# Altium footprint library 单片机.PcbLib: 16 footprints
Each footprint in its own frame and in the unit in brackets; x right, y up, seen from the top. Pads: shape width x height; smd on the part's side, far side on the other; paste and mask are expansions set on the pad; w line width, h text height; cw(c..) or ccw(c..) is an arc to the next point about the centre after c.
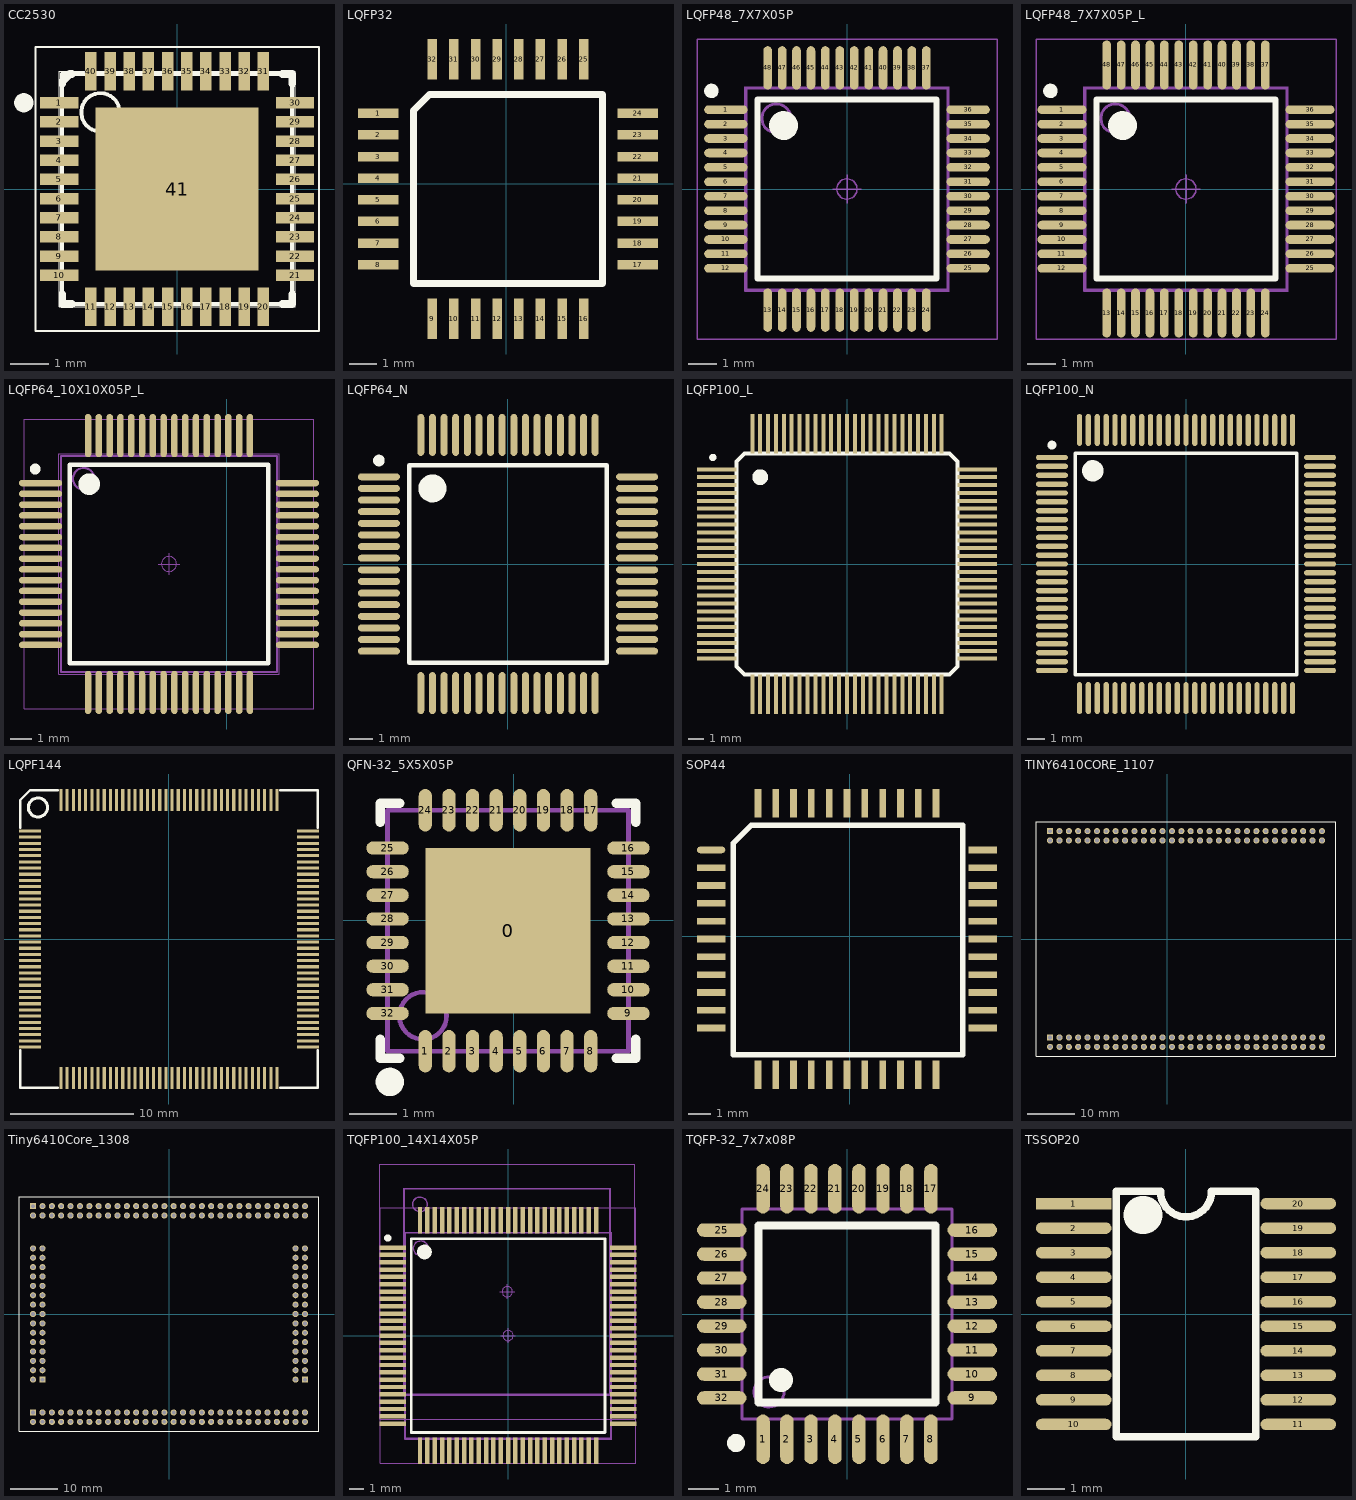
[diagram p0: the footprints below, top view; thin cyan lines are the x and y axes]

## CC2530 [mm]
pads (41):
  rect 1x0.3 smd: 1(-3.075,2.25) 2(-3.075,1.75) 3(-3.075,1.25) 4(-3.075,0.75) 5(-3.075,0.25) 6(-3.075,-0.25) 7(-3.075,-0.75) 8(-3.075,-1.25) 9(-3.075,-1.75) 10(-3.075,-2.25) 21(3.075,-2.25) 22(3.075,-1.75) 23(3.075,-1.25) 24(3.075,-0.75) 25(3.075,-0.25) 26(3.075,0.25) 27(3.075,0.75) 28(3.075,1.25) 29(3.075,1.75) 30(3.075,2.25)
  rect 0.3x1 smd: 11(-2.25,-3.075) 12(-1.75,-3.075) 13(-1.25,-3.075) 14(-0.75,-3.075) 15(-0.25,-3.075) 16(0.25,-3.075) 17(0.75,-3.075) 18(1.25,-3.075) 19(1.75,-3.075) 20(2.25,-3.075) 31(2.25,3.075) 32(1.75,3.075) 33(1.25,3.075) 34(0.75,3.075) 35(0.25,3.075) 36(-0.25,3.075) 37(-0.75,3.075) 38(-1.25,3.075) 39(-1.75,3.075) 40(-2.25,3.075)
  rect 4.25x4.25 smd: 41(0,0)
Top Overlay:
  circle w0.25: c-4,2.25 r0.125
  circle w0.1: c-2,2 r0.5
  circle w0.05: c0,0 r0.35
  lines w0.001: -3.075,-3.075 3.075,-3.075 3.075,3.075 -3.075,3.075 -3.075,-3.075
  lines w0.05: -0.5,0 0.5,0 ; 0,-0.5 0,0.5 ; -3.7,-3.7 3.7,-3.7 3.7,3.7 -3.7,3.7 -3.7,-3.7
  lines w0.1: -3,-3 3,-3 3,3 -3,3 -3,-3
  lines w0.2: -3,-2.75 -3,-3 -2.75,-3 ; -3,2.75 -3,2.8 -2.8,3 -2.75,3 ; 2.75,-3 3,-3 3,-2.75 ; 2.75,3 3,3 3,2.75
Mechanical 15:
  text "1" at 0.45,-0.164 h0.75

## LQFP32 [mm] "STM8S903K3T6"
pads (32):
  rect 1.5x0.35 smd: 1(-4.729,2.602) 2(-4.729,1.802) 3(-4.729,1.002) 4(-4.729,0.202) 5(-4.729,-0.598) 6(-4.729,-1.398) 7(-4.729,-2.198) 8(-4.729,-2.998) 17(4.871,-2.998) 18(4.871,-2.198) 19(4.871,-1.398) 20(4.871,-0.598) 21(4.871,0.202) 22(4.871,1.002) 23(4.871,1.802) 24(4.871,2.602)
  rect 0.35x1.5 smd: 9(-2.729,-4.998) 10(-1.929,-4.998) 11(-1.129,-4.998) 12(-0.329,-4.998) 13(0.471,-4.998) 14(1.271,-4.998) 15(2.071,-4.998) 16(2.871,-4.998) 25(2.871,4.602) 26(2.071,4.602) 27(1.271,4.602) 28(0.471,4.602) 29(-0.329,4.602) 30(-1.129,4.602) 31(-1.929,4.602) 32(-2.729,4.602)
Top Overlay:
  lines w0.254: -3.429,-3.698 3.571,-3.698 3.571,3.302 -2.829,3.302 -3.429,2.702 -3.429,-3.698
  text "." at -2.629,2.302 h1.52

## LQFP48_7X7X05P [mm]
pads (48):
  oval 1.5x0.3 smd: 1(-4.2,2.75) 2(-4.2,2.25) 3(-4.2,1.75) 4(-4.2,1.25) 5(-4.2,0.75) 6(-4.2,0.25) 7(-4.2,-0.25) 8(-4.2,-0.75) 9(-4.2,-1.25) 10(-4.2,-1.75) 11(-4.2,-2.25) 12(-4.2,-2.75) 25(4.2,-2.75) 26(4.2,-2.25) 27(4.2,-1.75) 28(4.2,-1.25) 29(4.2,-0.75) 30(4.2,-0.25) 31(4.2,0.25) 32(4.2,0.75) 33(4.2,1.25) 34(4.2,1.75) 35(4.2,2.25) 36(4.2,2.75)
  oval 0.3x1.5 smd: 13(-2.75,-4.2) 14(-2.25,-4.2) 15(-1.75,-4.2) 16(-1.25,-4.2) 17(-0.75,-4.2) 18(-0.25,-4.2) 19(0.25,-4.2) 20(0.75,-4.2) 21(1.25,-4.2) 22(1.75,-4.2) 23(2.25,-4.2) 24(2.75,-4.2) 37(2.75,4.2) 38(2.25,4.2) 39(1.75,4.2) 40(1.25,4.2) 41(0.75,4.2) 42(0.25,4.2) 43(-0.25,4.2) 44(-0.75,4.2) 45(-1.25,4.2) 46(-1.75,4.2) 47(-2.25,4.2) 48(-2.75,4.2)
Top Overlay:
  circle w0.5: c-2.2,2.2 r0.25
  circle w0.25: c-4.7,3.4 r0.125
  lines w0.2: -3.1,-3.1 -3.1,3.1 3.1,3.1 3.1,-3.1 -3.1,-3.1
Mechanical 15:
  circle w0.1: c-2.45,2.45 r0.5
  lines w0.1: -3.5,-3.5 -3.5,3.5 3.5,3.5 3.5,-3.5 -3.5,-3.5
Mechanical 16:
  circle w0.05: c0,0 r0.35
  lines w0.001: -3.55,-3.55 -3.55,3.55 3.55,3.55 3.55,-3.55 -3.55,-3.55
  lines w0.05: -0.5,0 0.5,0 ; 0,-0.5 0,0.5 ; -5.2,-5.2 -5.2,5.2 5.2,5.2 5.2,-5.2 -5.2,-5.2

## LQFP48_7X7X05P_L [mm] "焊盘加长"
pads (48):
  oval 1.7x0.3 smd: 1(-4.3,2.75) 2(-4.3,2.25) 3(-4.3,1.75) 4(-4.3,1.25) 5(-4.3,0.75) 6(-4.3,0.25) 7(-4.3,-0.25) 8(-4.3,-0.75) 9(-4.3,-1.25) 10(-4.3,-1.75) 11(-4.3,-2.25) 12(-4.3,-2.75) 25(4.3,-2.75) 26(4.3,-2.25) 27(4.3,-1.75) 28(4.3,-1.25) 29(4.3,-0.75) 30(4.3,-0.25) 31(4.3,0.25) 32(4.3,0.75) 33(4.3,1.25) 34(4.3,1.75) 35(4.3,2.25) 36(4.3,2.75)
  oval 0.3x1.7 smd: 13(-2.75,-4.3) 14(-2.25,-4.3) 15(-1.75,-4.3) 16(-1.25,-4.3) 17(-0.75,-4.3) 18(-0.25,-4.3) 19(0.25,-4.3) 20(0.75,-4.3) 21(1.25,-4.3) 22(1.75,-4.3) 23(2.25,-4.3) 24(2.75,-4.3) 37(2.75,4.3) 38(2.25,4.3) 39(1.75,4.3) 40(1.25,4.3) 41(0.75,4.3) 42(0.25,4.3) 43(-0.25,4.3) 44(-0.75,4.3) 45(-1.25,4.3) 46(-1.75,4.3) 47(-2.25,4.3) 48(-2.75,4.3)
Top Overlay:
  circle w0.5: c-2.2,2.2 r0.25
  circle w0.25: c-4.7,3.4 r0.125
  lines w0.2: -3.1,-3.1 -3.1,3.1 3.1,3.1 3.1,-3.1 -3.1,-3.1
Mechanical 15:
  circle w0.1: c-2.45,2.45 r0.5
  lines w0.1: -3.5,-3.5 -3.5,3.5 3.5,3.5 3.5,-3.5 -3.5,-3.5
Mechanical 16:
  circle w0.05: c0,0 r0.35
  lines w0.001: -3.55,-3.55 -3.55,3.55 3.55,3.55 3.55,-3.55 -3.55,-3.55
  lines w0.05: -0.5,0 0.5,0 ; 0,-0.5 0,0.5 ; -5.2,-5.2 -5.2,5.2 5.2,5.2 5.2,-5.2 -5.2,-5.2

## LQFP64_10X10X05P_L [mm] "焊盘加长"
pads (64):
  oval 2x0.3 smd: 1(-8.617,-15.173) 2(-8.617,-15.673) 3(-8.617,-16.173) 4(-8.617,-16.673) 5(-8.617,-17.173) 6(-8.617,-17.673) 7(-8.617,-18.173) 8(-8.617,-18.673) 9(-8.617,-19.173) 10(-8.617,-19.673) 11(-8.617,-20.173) 12(-8.617,-20.673) 13(-8.617,-21.173) 14(-8.617,-21.673) 15(-8.617,-22.173) 16(-8.617,-22.673) 33(3.283,-22.673) 34(3.283,-22.173) 35(3.283,-21.673) 36(3.283,-21.173) 37(3.283,-20.673) 38(3.283,-20.173) 39(3.283,-19.673) 40(3.283,-19.173) 41(3.283,-18.673) 42(3.283,-18.173) 43(3.283,-17.673) 44(3.283,-17.173) 45(3.283,-16.673) 46(3.283,-16.173) 47(3.283,-15.673) 48(3.283,-15.173)
  oval 0.3x2 smd: 17(-6.417,-24.873) 18(-5.917,-24.873) 19(-5.417,-24.873) 20(-4.917,-24.873) 21(-4.417,-24.873) 22(-3.917,-24.873) 23(-3.417,-24.873) 24(-2.917,-24.873) 25(-2.417,-24.873) 26(-1.917,-24.873) 27(-1.417,-24.873) 28(-0.917,-24.873) 29(-0.417,-24.873) 30(0.083,-24.873) 31(0.583,-24.873) 32(1.083,-24.873) 49(1.083,-12.973) 50(0.583,-12.973) 51(0.083,-12.973) 52(-0.417,-12.973) 53(-0.917,-12.973) 54(-1.417,-12.973) 55(-1.917,-12.973) 56(-2.417,-12.973) 57(-2.917,-12.973) 58(-3.417,-12.973) 59(-3.917,-12.973) 60(-4.417,-12.973) 61(-4.917,-12.973) 62(-5.417,-12.973) 63(-5.917,-12.973) 64(-6.417,-12.973)
Top Overlay:
  circle w0.5: c-6.367,-15.223 r0.25
  circle w0.25: c-8.867,-14.523 r0.125
  lines w0.2: -7.267,-23.523 -7.267,-14.323 1.933,-14.323 1.933,-23.523 -7.267,-23.523
Mechanical 15:
  circle w0.1: c-6.617,-14.973 r0.5
  lines w0.1: -7.667,-23.923 -7.667,-13.923 2.333,-13.923 2.333,-23.923 -7.667,-23.923
Mechanical 16:
  circle w0.05: c-2.667,-18.923 r0.35
  lines w0.001: -7.767,-24.023 -7.767,-13.823 2.433,-13.823 2.433,-24.023 -7.767,-24.023
  lines w0.05: -3.167,-18.923 -2.167,-18.923 ; -2.667,-19.423 -2.667,-18.423 ; -9.367,-25.623 -9.367,-12.223 4.033,-12.223 4.033,-25.623 -9.367,-25.623

## LQFP64_N [mm]
pads (64):
  oval 1.8x0.3 smd: 1(-5.55,3.75) 2(-5.55,3.25) 3(-5.55,2.75) 4(-5.55,2.25) 5(-5.55,1.75) 6(-5.55,1.25) 7(-5.55,0.75) 8(-5.55,0.25) 9(-5.55,-0.25) 10(-5.55,-0.75) 11(-5.55,-1.25) 12(-5.55,-1.75) 13(-5.55,-2.25) 14(-5.55,-2.75) 15(-5.55,-3.25) 16(-5.55,-3.75) 33(5.55,-3.75) 34(5.55,-3.25) 35(5.55,-2.75) 36(5.55,-2.25) 37(5.55,-1.75) 38(5.55,-1.25) 39(5.55,-0.75) 40(5.55,-0.25) 41(5.55,0.25) 42(5.55,0.75) 43(5.55,1.25) 44(5.55,1.75) 45(5.55,2.25) 46(5.55,2.75) 47(5.55,3.25) 48(5.55,3.75)
  oval 0.3x1.8 smd: 17(-3.75,-5.55) 18(-3.25,-5.55) 19(-2.75,-5.55) 20(-2.25,-5.55) 21(-1.75,-5.55) 22(-1.25,-5.55) 23(-0.75,-5.55) 24(-0.25,-5.55) 25(0.25,-5.55) 26(0.75,-5.55) 27(1.25,-5.55) 28(1.75,-5.55) 29(2.25,-5.55) 30(2.75,-5.55) 31(3.25,-5.55) 32(3.75,-5.55) 49(3.75,5.55) 50(3.25,5.55) 51(2.75,5.55) 52(2.25,5.55) 53(1.75,5.55) 54(1.25,5.55) 55(0.75,5.55) 56(0.25,5.55) 57(-0.25,5.55) 58(-0.75,5.55) 59(-1.25,5.55) 60(-1.75,5.55) 61(-2.25,5.55) 62(-2.75,5.55) 63(-3.25,5.55) 64(-3.75,5.55)
Top Overlay:
  circle w0.25: c-5.55,4.45 r0.125
  circle w0.6: c-3.25,3.25 r0.3
  lines w0.2: -4.25,-4.25 -4.25,4.25 4.25,4.25 4.25,-4.25 -4.25,-4.25

## LQFP100_L [mm]
pads (100):
  rect 2.5x0.254 smd: 1(-8.25,6) 2(-8.25,5.5) 3(-8.25,5) 4(-8.25,4.5) 5(-8.25,4) 6(-8.25,3.5) 7(-8.25,3) 8(-8.25,2.5) 9(-8.25,2) 10(-8.25,1.5) 11(-8.25,1) 12(-8.25,0.5) 13(-8.25,0) 14(-8.25,-0.5) 15(-8.25,-1) 16(-8.25,-1.5) 17(-8.25,-2) 18(-8.25,-2.5) 19(-8.25,-3) 20(-8.25,-3.5) 21(-8.25,-4) 22(-8.25,-4.5) 23(-8.25,-5) 24(-8.25,-5.5) 25(-8.25,-6) 51(8.25,-6) 52(8.25,-5.5) 53(8.25,-5) 54(8.25,-4.5) 55(8.25,-4) 56(8.25,-3.5) 57(8.25,-3) 58(8.25,-2.5) 59(8.25,-2) 60(8.25,-1.5) 61(8.25,-1) 62(8.25,-0.5) 63(8.25,0) 64(8.25,0.5) 65(8.25,1) 66(8.25,1.5) 67(8.25,2) 68(8.25,2.5) 69(8.25,3) 70(8.25,3.5) 71(8.25,4) 72(8.25,4.5) 73(8.25,5) 74(8.25,5.5) 75(8.25,6)
  rect 0.254x2.5 smd: 26(-6,-8.25) 27(-5.5,-8.25) 28(-5,-8.25) 29(-4.5,-8.25) 30(-4,-8.25) 31(-3.5,-8.25) 32(-3,-8.25) 33(-2.5,-8.25) 34(-2,-8.25) 35(-1.5,-8.25) 36(-1,-8.25) 37(-0.5,-8.25) 38(0,-8.25) 39(0.5,-8.25) 40(1,-8.25) 41(1.5,-8.25) 42(2,-8.25) 43(2.5,-8.25) 44(3,-8.25) 45(3.5,-8.25) 46(4,-8.25) 47(4.5,-8.25) 48(5,-8.25) 49(5.5,-8.25) 50(6,-8.25) 76(6,8.25) 77(5.5,8.25) 78(5,8.25) 79(4.5,8.25) 80(4,8.25) 81(3.5,8.25) 82(3,8.25) 83(2.5,8.25) 84(2,8.25) 85(1.5,8.25) 86(1,8.25) 87(0.5,8.25) 88(0,8.25) 89(-0.5,8.25) 90(-1,8.25) 91(-1.5,8.25) 92(-2,8.25) 93(-2.5,8.25) 94(-3,8.25) 95(-3.5,8.25) 96(-4,8.25) 97(-4.5,8.25) 98(-5,8.25) 99(-5.5,8.25) 100(-6,8.25)
Top Overlay:
  circle w0.254: c-8.5,6.75 r0.1
  circle w0.5: c-5.5,5.5 r0.25
  lines w0.254: -7,-6.5 -7,6.5 ; -7,-6.5 -6.5,-7 ; -7,-6.5 -6.5,-7 ; -7,6.5 -6.5,7 ; -7,6.5 -6.5,7 ; -6.5,-7 6.5,-7 ; -6.5,7 6.5,7 ; 6.5,-7 7,-6.5 ; 6.5,-7 7,-6.5 ; 6.5,7 7,6.5 ; 6.5,7 7,6.5 ; 7,-6.5 7,6.5
3D body: height 1.41, standoff -0.05, extent -8,-8 8,8

## LQFP100_N [mm]
pads (100):
  oval 1.8x0.3 smd: 1(-7.55,6) 2(-7.55,5.5) 3(-7.55,5) 4(-7.55,4.5) 5(-7.55,4) 6(-7.55,3.5) 7(-7.55,3) 8(-7.55,2.5) 9(-7.55,2) 10(-7.55,1.5) 11(-7.55,1) 12(-7.55,0.5) 13(-7.55,0) 14(-7.55,-0.5) 15(-7.55,-1) 16(-7.55,-1.5) 17(-7.55,-2) 18(-7.55,-2.5) 19(-7.55,-3) 20(-7.55,-3.5) 21(-7.55,-4) 22(-7.55,-4.5) 23(-7.55,-5) 24(-7.55,-5.5) 25(-7.55,-6) 51(7.55,-6) 52(7.55,-5.5) 53(7.55,-5) 54(7.55,-4.5) 55(7.55,-4) 56(7.55,-3.5) 57(7.55,-3) 58(7.55,-2.5) 59(7.55,-2) 60(7.55,-1.5) 61(7.55,-1) 62(7.55,-0.5) 63(7.55,0) 64(7.55,0.5) 65(7.55,1) 66(7.55,1.5) 67(7.55,2) 68(7.55,2.5) 69(7.55,3) 70(7.55,3.5) 71(7.55,4) 72(7.55,4.5) 73(7.55,5) 74(7.55,5.5) 75(7.55,6)
  oval 0.3x1.8 smd: 26(-6,-7.55) 27(-5.5,-7.55) 28(-5,-7.55) 29(-4.5,-7.55) 30(-4,-7.55) 31(-3.5,-7.55) 32(-3,-7.55) 33(-2.5,-7.55) 34(-2,-7.55) 35(-1.5,-7.55) 36(-1,-7.55) 37(-0.5,-7.55) 38(0,-7.55) 39(0.5,-7.55) 40(1,-7.55) 41(1.5,-7.55) 42(2,-7.55) 43(2.5,-7.55) 44(3,-7.55) 45(3.5,-7.55) 46(4,-7.55) 47(4.5,-7.55) 48(5,-7.55) 49(5.5,-7.55) 50(6,-7.55) 76(6,7.55) 77(5.5,7.55) 78(5,7.55) 79(4.5,7.55) 80(4,7.55) 81(3.5,7.55) 82(3,7.55) 83(2.5,7.55) 84(2,7.55) 85(1.5,7.55) 86(1,7.55) 87(0.5,7.55) 88(0,7.55) 89(-0.5,7.55) 90(-1,7.55) 91(-1.5,7.55) 92(-2,7.55) 93(-2.5,7.55) 94(-3,7.55) 95(-3.5,7.55) 96(-4,7.55) 97(-4.5,7.55) 98(-5,7.55) 99(-5.5,7.55) 100(-6,7.55)
Top Overlay:
  circle w0.25: c-7.55,6.7 r0.125
  circle w0.6: c-5.25,5.25 r0.3
  lines w0.2: -6.25,-6.25 -6.25,6.25 6.25,6.25 6.25,-6.25 -6.25,-6.25
3D body: height 1.41, standoff -0.05, extent -8,-8 8,8

## LQPF144 [mm]
pads (144):
  rect 1.8x0.254 smd: 1(-11.25,8.75) 2(-11.25,8.25) 3(-11.25,7.75) 4(-11.25,7.25) 5(-11.25,6.75) 6(-11.25,6.25) 7(-11.25,5.75) 8(-11.25,5.25) 9(-11.25,4.75) 10(-11.25,4.25) 11(-11.25,3.75) 12(-11.25,3.25) 13(-11.25,2.75) 14(-11.25,2.25) 15(-11.25,1.75) 16(-11.25,1.25) 17(-11.25,0.75) 18(-11.25,0.25) 19(-11.25,-0.25) 20(-11.25,-0.75) 21(-11.25,-1.25) 22(-11.25,-1.75) 23(-11.25,-2.25) 24(-11.25,-2.75) 25(-11.25,-3.25) 26(-11.25,-3.75) 27(-11.25,-4.25) 28(-11.25,-4.75) 29(-11.25,-5.25) 30(-11.25,-5.75) 31(-11.25,-6.25) 32(-11.25,-6.75) 33(-11.25,-7.25) 34(-11.25,-7.75) 35(-11.25,-8.25) 36(-11.25,-8.75) 73(11.25,-8.75) 74(11.25,-8.25) 75(11.25,-7.75) 76(11.25,-7.25) 77(11.25,-6.75) 78(11.25,-6.25) 79(11.25,-5.75) 80(11.25,-5.25) 81(11.25,-4.75) 82(11.25,-4.25) 83(11.25,-3.75) 84(11.25,-3.25) 85(11.25,-2.75) 86(11.25,-2.25) 87(11.25,-1.75) 88(11.25,-1.25) 89(11.25,-0.75) 90(11.25,-0.25) 91(11.25,0.25) 92(11.25,0.75) 93(11.25,1.25) 94(11.25,1.75) 95(11.25,2.25) 96(11.25,2.75) 97(11.25,3.25) 98(11.25,3.75) 99(11.25,4.25) 100(11.25,4.75) 101(11.25,5.25) 102(11.25,5.75) 103(11.25,6.25) 104(11.25,6.75) 105(11.25,7.25) 106(11.25,7.75) 107(11.25,8.25) 108(11.25,8.75)
  rect 0.254x1.8 smd: 37(-8.75,-11.25) 38(-8.25,-11.25) 39(-7.75,-11.25) 40(-7.25,-11.25) 41(-6.75,-11.25) 42(-6.25,-11.25) 43(-5.75,-11.25) 44(-5.25,-11.25) 45(-4.75,-11.25) 46(-4.25,-11.25) 47(-3.75,-11.25) 48(-3.25,-11.25) 49(-2.75,-11.25) 50(-2.25,-11.25) 51(-1.75,-11.25) 52(-1.25,-11.25) 53(-0.75,-11.25) 54(-0.25,-11.25) 55(0.25,-11.25) 56(0.75,-11.25) 57(1.25,-11.25) 58(1.75,-11.25) 59(2.25,-11.25) 60(2.75,-11.25) 61(3.25,-11.25) 62(3.75,-11.25) 63(4.25,-11.25) 64(4.75,-11.25) 65(5.25,-11.25) 66(5.75,-11.25) 67(6.25,-11.25) 68(6.75,-11.25) 69(7.25,-11.25) 70(7.75,-11.25) 71(8.25,-11.25) 72(8.75,-11.25) 109(8.75,11.25) 110(8.25,11.25) 111(7.75,11.25) 112(7.25,11.25) 113(6.75,11.25) 114(6.25,11.25) 115(5.75,11.25) 116(5.25,11.25) 117(4.75,11.25) 118(4.25,11.25) 119(3.75,11.25) 120(3.25,11.25) 121(2.75,11.25) 122(2.25,11.25) 123(1.75,11.25) 124(1.25,11.25) 125(0.75,11.25) 126(0.25,11.25) 127(-0.25,11.25) 128(-0.75,11.25) 129(-1.25,11.25) 130(-1.75,11.25) 131(-2.25,11.25) 132(-2.75,11.25) 133(-3.25,11.25) 134(-3.75,11.25) 135(-4.25,11.25) 136(-4.75,11.25) 137(-5.25,11.25) 138(-5.75,11.25) 139(-6.25,11.25) 140(-6.75,11.25) 141(-7.25,11.25) 142(-7.75,11.25) 143(-8.25,11.25) 144(-8.75,11.25)
Top Overlay:
  circle w0.254: c-10.616,10.654 r0.773
  lines w0.2: -12.05,-9 -12.05,-12.05 -9,-12.05 ; -12.05,9 -12.05,11.25 -11.25,12.05 -9,12.05 ; 9,-12.05 12.05,-12.05 12.05,-9 ; 9,12.05 12.05,12.05 12.05,9

## QFN-32_5X5X05P [mm]
pads (33):
  rect 3.5x3.5 smd paste-1.75 mask+0.051: 0(-0.125,-0.225)
  oval 0.28x0.9 smd mask+0.051: 1(-1.875,-2.775) 2(-1.375,-2.775) 3(-0.875,-2.775) 4(-0.375,-2.775) 5(0.125,-2.775) 6(0.625,-2.775) 7(1.125,-2.775) 8(1.625,-2.775) 17(1.625,2.325) 18(1.125,2.325) 19(0.625,2.325) 20(0.125,2.325) 21(-0.375,2.325) 22(-0.875,2.325) 23(-1.375,2.325) 24(-1.875,2.325)
  oval 0.9x0.28 smd mask+0.051: 9(2.425,-1.975) 10(2.425,-1.475) 11(2.425,-0.975) 12(2.425,-0.475) 13(2.425,0.025) 14(2.425,0.525) 15(2.425,1.025) 16(2.425,1.525) 25(-2.675,1.525) 26(-2.675,1.025) 27(-2.675,0.525) 28(-2.675,0.025) 29(-2.675,-0.475) 30(-2.675,-0.975) 31(-2.675,-1.475) 32(-2.675,-1.975)
Top Overlay:
  circle w0.3: c-2.625,-3.425 r0.15
  lines w0.2: -2.825,-2.52 -2.825,-2.925 -2.42,-2.925 ; -2.825,2.07 -2.825,2.475 -2.42,2.475 ; 2.17,-2.925 2.575,-2.925 2.575,-2.52 ; 2.17,2.475 2.575,2.475 2.575,2.07
Top Paste:
  rectangle: 0.425,0.325 0.925,0.825
  rectangle: -0.375,0.325 0.125,0.825
  rectangle: -1.175,0.325 -0.675,0.825
  rectangle: -1.175,-0.475 -0.675,0.025
  rectangle: -1.175,-1.275 -0.675,-0.775
  rectangle: 0.425,-1.275 0.925,-0.775
  rectangle: -0.375,-1.275 0.125,-0.775
  rectangle: 0.425,-0.475 0.925,0.025
  rectangle: -0.375,-0.475 0.125,0.025
Mechanical 13:
  circle w0.1: c-1.925,-2.025 r0.5
  lines w0.1: -2.675,-2.775 -2.675,2.325 2.425,2.325 2.425,-2.775 -2.675,-2.775

## SOP44 [mm] "STC12C5A60S2"
pads (44):
  oval 1.27x0.3 smd: 1(-6.227,3.873)
  rect 1.27x0.3 smd: 2(-6.227,3.073) 3(-6.227,2.273) 4(-6.227,1.473) 5(-6.227,0.673) 6(-6.227,-0.127) 7(-6.227,-0.927) 8(-6.227,-1.727) 9(-6.227,-2.527) 10(-6.227,-3.327) 11(-6.227,-4.127) 23(5.973,-4.127) 24(5.973,-3.327) 25(5.973,-2.527) 26(5.973,-1.727) 27(5.973,-0.927) 28(5.973,-0.127) 29(5.973,0.673) 30(5.973,1.473) 31(5.973,2.273) 32(5.973,3.073) 33(5.973,3.873)
  rect 0.3x1.27 smd: 12(-4.127,-6.227) 13(-3.327,-6.227) 14(-2.527,-6.227) 15(-1.727,-6.227) 16(-0.927,-6.227) 17(-0.127,-6.227) 18(0.673,-6.227) 19(1.473,-6.227) 20(2.273,-6.227) 21(3.073,-6.227) 22(3.873,-6.227) 34(3.873,5.973) 35(3.073,5.973) 36(2.273,5.973) 37(1.473,5.973) 38(0.673,5.973) 39(-0.127,5.973) 40(-0.927,5.973) 41(-1.727,5.973) 42(-2.527,5.973) 43(-3.327,5.973) 44(-4.127,5.973)
Top Overlay:
  lines w0.245: -5.227,-5.327 -5.227,4.173 -4.427,4.973 5.073,4.973 5.073,-5.327 -5.227,-5.327
  text "." at -4.227,3.973 h1.52

## TINY6410CORE_1107 [mm]
pads (120):
  rect 1.3x1.3 hole 0.8: 1(-25,23) 61(-25,-21)
  round 1.3 hole 0.8: 2(-25,21) 3(-23,23) 4(-23,21) 5(-21,23) 6(-21,21) 7(-19,23) 8(-19,21) 9(-17,23) 10(-17,21) 11(-15,23) 12(-15,21) 13(-13,23) 14(-13,21) 15(-11,23) 16(-11,21) 17(-9,23) 18(-9,21) 19(-7,23) 20(-7,21) 21(-5,23) 22(-5,21) 23(-3,23) 24(-3,21) 25(-1,23) 26(-1,21) 27(1,23) 28(1,21) 29(3,23) 30(3,21) 31(5,23) 32(5,21) 33(7,23) 34(7,21) 35(9,23) 36(9,21) 37(11,23) 38(11,21) 39(13,23) 40(13,21) 41(15,23) 42(15,21) 43(17,23) 44(17,21) 45(19,23) 46(19,21) 47(21,23) 48(21,21) 49(23,23) 50(23,21) 51(25,23) 52(25,21) 53(27,23) 54(27,21) 55(29,23) 56(29,21) 57(31,23) 58(31,21) 59(33,23) 60(33,21) 62(-25,-23) 63(-23,-21) 64(-23,-23) 65(-21,-21) 66(-21,-23) 67(-19,-21) 68(-19,-23) 69(-17,-21) 70(-17,-23) 71(-15,-21) 72(-15,-23) 73(-13,-21) 74(-13,-23) 75(-11,-21) 76(-11,-23) 77(-9,-21) 78(-9,-23) 79(-7,-21) 80(-7,-23) 81(-5,-21) 82(-5,-23) 83(-3,-21) 84(-3,-23) 85(-1,-21) 86(-1,-23) 87(1,-21) 88(1,-23) 89(3,-21) 90(3,-23) 91(5,-21) 92(5,-23) 93(7,-21) 94(7,-23) 95(9,-21) 96(9,-23) 97(11,-21) 98(11,-23) 99(13,-21) 100(13,-23) 101(15,-21) 102(15,-23) 103(17,-21) 104(17,-23) 105(19,-21) 106(19,-23) 107(21,-21) 108(21,-23) 109(23,-21) 110(23,-23) 111(25,-21) 112(25,-23) 113(27,-21) 114(27,-23) 115(29,-21) 116(29,-23) 117(31,-21) 118(31,-23) 119(33,-21) 120(33,-23)
Top Overlay:
  lines w0.254: -28,-25 36,-25 36,25 -28,25 -28,-25

## Tiny6410Core_1308 [mm]
pads (180):
  rect 1.3x1.3 hole 0.8: 1(-29,23) 61(-29,-21) 121(-27,-14) 151(29,-14)
  round 1.3 hole 0.8: 2(-29,21) 3(-27,23) 4(-27,21) 5(-25,23) 6(-25,21) 7(-23,23) 8(-23,21) 9(-21,23) 10(-21,21) 11(-19,23) 12(-19,21) 13(-17,23) 14(-17,21) 15(-15,23) 16(-15,21) 17(-13,23) 18(-13,21) 19(-11,23) 20(-11,21) 21(-9,23) 22(-9,21) 23(-7,23) 24(-7,21) 25(-5,23) 26(-5,21) 27(-3,23) 28(-3,21) 29(-1,23) 30(-1,21) 31(1,23) 32(1,21) 33(3,23) 34(3,21) 35(5,23) 36(5,21) 37(7,23) 38(7,21) 39(9,23) 40(9,21) 41(11,23) 42(11,21) 43(13,23) 44(13,21) 45(15,23) 46(15,21) 47(17,23) 48(17,21) 49(19,23) 50(19,21) 51(21,23) 52(21,21) 53(23,23) 54(23,21) 55(25,23) 56(25,21) 57(27,23) 58(27,21) 59(29,23) 60(29,21) 62(-29,-23) 63(-27,-21) 64(-27,-23) 65(-25,-21) 66(-25,-23) 67(-23,-21) 68(-23,-23) 69(-21,-21) 70(-21,-23) 71(-19,-21) 72(-19,-23) 73(-17,-21) 74(-17,-23) 75(-15,-21) 76(-15,-23) 77(-13,-21) 78(-13,-23) 79(-11,-21) 80(-11,-23) 81(-9,-21) 82(-9,-23) 83(-7,-21) 84(-7,-23) 85(-5,-21) 86(-5,-23) 87(-3,-21) 88(-3,-23) 89(-1,-21) 90(-1,-23) 91(1,-21) 92(1,-23) 93(3,-21) 94(3,-23) 95(5,-21) 96(5,-23) 97(7,-21) 98(7,-23) 99(9,-21) 100(9,-23) 101(11,-21) 102(11,-23) 103(13,-21) 104(13,-23) 105(15,-21) 106(15,-23) 107(17,-21) 108(17,-23) 109(19,-21) 110(19,-23) 111(21,-21) 112(21,-23) 113(23,-21) 114(23,-23) 115(25,-21) 116(25,-23) 117(27,-21) 118(27,-23) 119(29,-21) 120(29,-23) 122(-29,-14) 123(-27,-12) 124(-29,-12) 125(-27,-10) 126(-29,-10) 127(-27,-8) 128(-29,-8) 129(-27,-6) 130(-29,-6) 131(-27,-4) 132(-29,-4) 133(-27,-2) 134(-29,-2) 135(-27,0) 136(-29,0) 137(-27,2) 138(-29,2) 139(-27,4) 140(-29,4) 141(-27,6) 142(-29,6) 143(-27,8) 144(-29,8) 145(-27,10) 146(-29,10) 147(-27,12) 148(-29,12) 149(-27,14) 150(-29,14) 152(27,-14) 153(29,-12) 154(27,-12) 155(29,-10) 156(27,-10) 157(29,-8) 158(27,-8) 159(29,-6) 160(27,-6) 161(29,-4) 162(27,-4) 163(29,-2) 164(27,-2) 165(29,0) 166(27,0) 167(29,2) 168(27,2) 169(29,4) 170(27,4) 171(29,6) 172(27,6) 173(29,8) 174(27,8) 175(29,10) 176(27,10) 177(29,12) 178(27,12) 179(29,14) 180(27,14)
Top Overlay:
  lines w0.254: -32,-25 -32,25 32,25 32,-25 -32,-25

## TQFP100_14X14X05P [mm]
pads (100):
  rect 1.8x0.3 smd: 1(-7.85,6) 2(-7.85,5.5) 3(-7.85,5) 4(-7.85,4.5) 5(-7.85,4) 6(-7.85,3.5) 7(-7.85,3) 8(-7.85,2.5) 9(-7.85,2) 10(-7.85,1.5) 11(-7.85,1) 12(-7.85,0.5) 13(-7.85,0) 14(-7.85,-0.5) 15(-7.85,-1) 16(-7.85,-1.5) 17(-7.85,-2) 18(-7.85,-2.5) 19(-7.85,-3) 20(-7.85,-3.5) 21(-7.85,-4) 22(-7.85,-4.5) 23(-7.85,-5) 24(-7.85,-5.5) 25(-7.85,-6) 51(7.85,-6) 52(7.85,-5.5) 53(7.85,-5) 54(7.85,-4.5) 55(7.85,-4) 56(7.85,-3.5) 57(7.85,-3) 58(7.85,-2.5) 59(7.85,-2) 60(7.85,-1.5) 61(7.85,-1) 62(7.85,-0.5) 63(7.85,0) 64(7.85,0.5) 65(7.85,1) 66(7.85,1.5) 67(7.85,2) 68(7.85,2.5) 69(7.85,3) 70(7.85,3.5) 71(7.85,4) 72(7.85,4.5) 73(7.85,5) 74(7.85,5.5) 75(7.85,6)
  rect 0.3x1.8 smd: 26(-6,-7.85) 27(-5.5,-7.85) 28(-5,-7.85) 29(-4.5,-7.85) 30(-4,-7.85) 31(-3.5,-7.85) 32(-3,-7.85) 33(-2.5,-7.85) 34(-2,-7.85) 35(-1.5,-7.85) 36(-1,-7.85) 37(-0.5,-7.85) 38(0,-7.85) 39(0.5,-7.85) 40(1,-7.85) 41(1.5,-7.85) 42(2,-7.85) 43(2.5,-7.85) 44(3,-7.85) 45(3.5,-7.85) 46(4,-7.85) 47(4.5,-7.85) 48(5,-7.85) 49(5.5,-7.85) 50(6,-7.85) 76(6,7.85) 77(5.5,7.85) 78(5,7.85) 79(4.5,7.85) 80(4,7.85) 81(3.5,7.85) 82(3,7.85) 83(2.5,7.85) 84(2,7.85) 85(1.5,7.85) 86(1,7.85) 87(0.5,7.85) 88(0,7.85) 89(-0.5,7.85) 90(-1,7.85) 91(-1.5,7.85) 92(-2,7.85) 93(-2.5,7.85) 94(-3,7.85) 95(-3.5,7.85) 96(-4,7.85) 97(-4.5,7.85) 98(-5,7.85) 99(-5.5,7.85) 100(-6,7.85)
Top Overlay:
  circle w0.5: c-5.7,5.7 r0.25
  circle w0.25: c-8.2,6.65 r0.125
  lines w0.2: -6.6,-6.6 -6.6,6.6 6.6,6.6 6.6,-6.6 -6.6,-6.6
Mechanical 15:
  circle w0.1: c-6.011,8.945 r0.5
  circle w0.1: c-5.95,5.95 r0.5
  lines w0.1: -7.061,-4.005 -7.061,9.995 6.939,9.995 6.939,-4.005 -7.061,-4.005 ; -7,-7 -7,7 7,7 7,-7 -7,-7
Mechanical 16:
  circle w0.05: c-0.061,2.995 r0.35
  circle w0.05: c0,0 r0.35
  lines w0.001: -7.111,-4.055 -7.111,10.045 6.989,10.045 6.989,-4.055 -7.111,-4.055 ; -7.05,-7.05 -7.05,7.05 7.05,7.05 7.05,-7.05 -7.05,-7.05
  lines w0.05: -0.561,2.995 0.439,2.995 ; -0.5,0 0.5,0 ; -0.061,2.495 -0.061,3.495 ; 0,-0.5 0,0.5 ; -8.761,-5.705 -8.761,11.695 8.639,11.695 8.639,-5.705 -8.761,-5.705 ; -8.7,-8.7 -8.7,8.7 8.7,8.7 8.7,-8.7 -8.7,-8.7

## TQFP-32_7x7x08P [mm]
pads (32):
  oval 0.45x1.65 smd: 1(-2.8,-4.175) 2(-2,-4.175) 3(-1.2,-4.175) 4(-0.4,-4.175) 5(0.4,-4.175) 6(1.2,-4.175) 7(2,-4.175) 8(2.8,-4.175) 17(2.8,4.175) 18(2,4.175) 19(1.2,4.175) 20(0.4,4.175) 21(-0.4,4.175) 22(-1.2,4.175) 23(-2,4.175) 24(-2.8,4.175)
  oval 1.65x0.45 smd: 9(4.175,-2.8) 10(4.175,-2) 11(4.175,-1.2) 12(4.175,-0.4) 13(4.175,0.4) 14(4.175,1.2) 15(4.175,2) 16(4.175,2.8) 25(-4.175,2.8) 26(-4.175,2) 27(-4.175,1.2) 28(-4.175,0.4) 29(-4.175,-0.4) 30(-4.175,-1.2) 31(-4.175,-2) 32(-4.175,-2.8)
Top Overlay:
  circle w0.3: c-3.7,-4.3 r0.15
  circle w0.4: c-2.2,-2.2 r0.2
  lines w0.254: -2.95,-2.95 -2.95,2.95 2.95,2.95 2.95,-2.95 -2.95,-2.95
Mechanical 13:
  circle w0.1: c-2.6,-2.6 r0.5
  lines w0.1: -3.5,-3.5 -3.5,3.5 3.5,3.5 3.5,-3.5 -3.5,-3.5

## TSSOP20 [mm]
pads (20):
  rect 2x0.3 smd: 1(-2.975,2.925)
  oval 2x0.3 smd: 2(-2.975,2.275) 3(-2.975,1.625) 4(-2.975,0.975) 5(-2.975,0.325) 6(-2.975,-0.325) 7(-2.975,-0.975) 8(-2.975,-1.625) 9(-2.975,-2.275) 10(-2.975,-2.925) 11(2.975,-2.925) 12(2.975,-2.275) 13(2.975,-1.625) 14(2.975,-0.975) 15(2.975,-0.325) 16(2.975,0.325) 17(2.975,0.975) 18(2.975,1.625) 19(2.975,2.275) 20(2.975,2.925)
Top Overlay:
  lines w0.2: -1.85,-3.25 -1.85,3.25 -0.675,3.25 ccw(c0,3.25) 0.675,3.25 1.85,3.25 1.85,2.173 1.85,-1.077 1.85,-3.25 -1.85,-3.25
  lines w1: -1.15,2.625 -1.125,2.625